# EAGLE library part ADF7030-1(LQFP48) (library AD_Radio_Transceivers)
ADF7030-1 is a fully integrated, radio transceiver achieving high performance at very low power Technical Specifications: Radio frequency (RF) ranges: 169.4 MHz to 169.6 MHz 426 MHz to 470 MHz 863 MHz to 960 MHz VCC: 2.2-3.6V Operating Temperature: -40°C to 85°C Mouser: 584-ADF7030-1BCPZN DATASHEET <https://www.analog.com/media/en/technical-documentation/data-sheets/ADF7030-1.pdf>
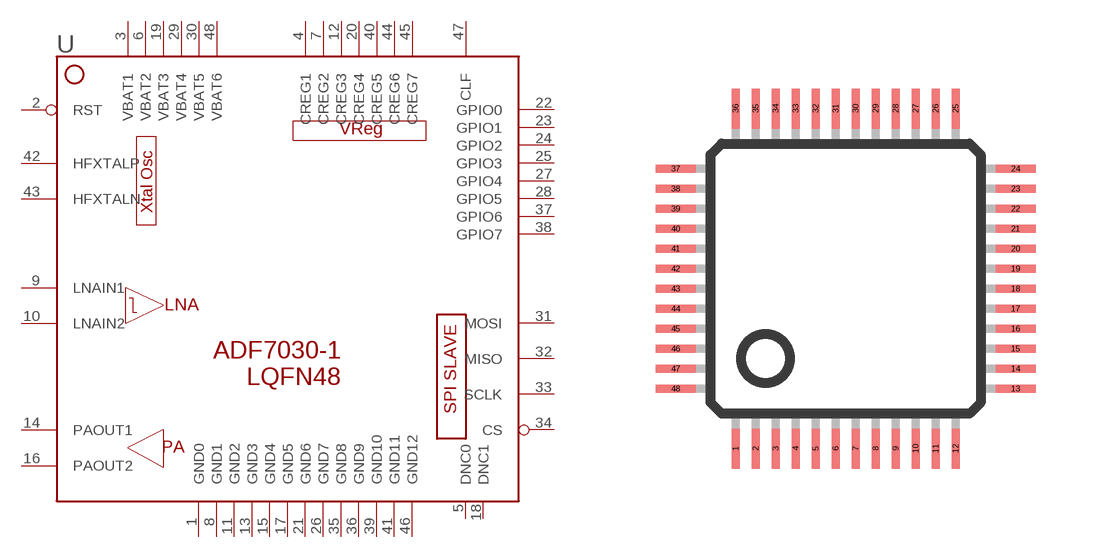
[diagram p1: symbol with the pads of LQFP48; footprint LQFP48]

Designator prefix -

## ADF7030-1(LQFP48)  [LQFP48]
1  GND0  sup
2  RST  in
3  VBAT1  pwr
4  CREG1  out
5  DNC0  nc
6  VBAT2  pwr
7  CREG2  out
8  GND1  sup
9  LNAIN1  in
10  LNAIN2  in
11  GND2  sup
12  CREG3  out
13  GND3  sup
14  PAOUT1  out
15  GND4  sup
16  PAOUT2  out
17  GND5  sup
18  DNC1  nc
19  VBAT3  pwr
20  CREG4  out
21  GND6  sup
22  GPIO0
23  GPIO1
24  GPIO2
25  GPIO3
26  GND7  sup
27  GPIO4
28  GPIO5
29  VBAT4  pwr
30  VBAT5  pwr
31  MOSI
32  MISO
33  SCLK
34  CS  in
35  GND8  sup
36  GND9  sup
37  GPIO6
38  GPIO7
39  GND10  sup
40  CREG5  out
41  GND11  sup
42  HFXTALP
43  HFXTALN
44  CREG6  out
45  CREG7  out
46  GND12  sup
47  CLF
48  VBAT6  pwr

## Footprint LQFP48 (pad centres in mm)
48-pin plastic LQFP (FPT-48P-M26)
smd 0.2 x 1: 1 -2.75,-4.25; 2 -2.25,-4.25; 3 -1.75,-4.25; 4 -1.25,-4.25; 5 -0.75,-4.25; 6 -0.25,-4.25; 7 0.25,-4.25; 8 0.75,-4.25; 9 1.25,-4.25; 10 1.75,-4.25; 11 2.25,-4.25; 12 2.75,-4.25; 25 2.75,4.25; 26 2.25,4.25; 27 1.75,4.25; 28 1.25,4.25; 29 0.75,4.25; 30 0.25,4.25; 31 -0.25,4.25; 32 -0.75,4.25; 33 -1.25,4.25; 34 -1.75,4.25; 35 -2.25,4.25; 36 -2.75,4.25
smd 1 x 0.2: 13 4.25,-2.75; 14 4.25,-2.25; 15 4.25,-1.75; 16 4.25,-1.25; 17 4.25,-0.75; 18 4.25,-0.25; 19 4.25,0.25; 20 4.25,0.75; 21 4.25,1.25; 22 4.25,1.75; 23 4.25,2.25; 24 4.25,2.75; 37 -4.25,2.75; 38 -4.25,2.25; 39 -4.25,1.75; 40 -4.25,1.25; 41 -4.25,0.75; 42 -4.25,0.25; 43 -4.25,-0.25; 44 -4.25,-0.75; 45 -4.25,-1.25; 46 -4.25,-1.75; 47 -4.25,-2.25; 48 -4.25,-2.75